# EAGLE library part ESP32-S2-WROOM (library ESP32-S2-WROOM)
WiFi 802.11b/g/n Transceiver Module 2.4GHz PCB Trace Surface Mount Check availability <https://pricing.snapeda.com/parts/ESP32-S2-WROOM/Espressif%20Systems/view-part?ref=eda>
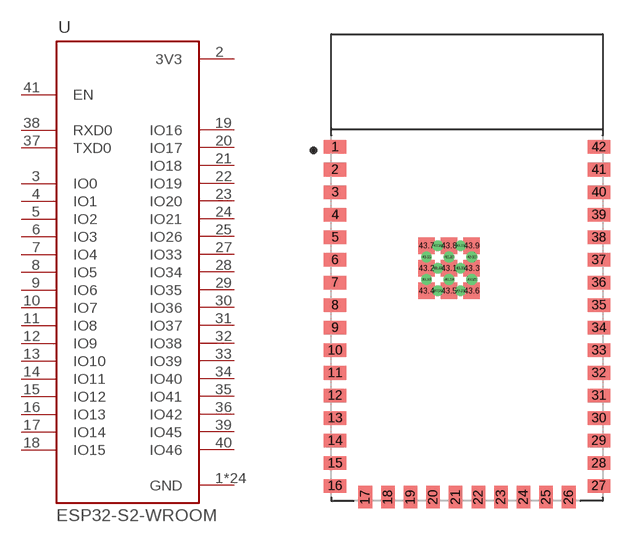
[diagram p0: symbol with the pads of XCVR_ESP32-S2-WROOM; footprint XCVR_ESP32-S2-WROOM]

Designator prefix U

## ESP32-S2-WROOM (Availability: In Stock; Description: WiFi 802.11b/g/n Transceiver Module 2.4GHz Antenna Not Included, I-PEX Surface Mount; MF: Espressif Systems; MP: ESP32-S2-WROOM; Package: NON STANDARD-56 Espressif Systems; Price: None; Purchase-URL: https://pricing.snapeda.com/search/part/ESP32-S2-WROOM/?ref=eda)  [XCVR_ESP32-S2-WROOM]
1  GND  pwr
2  3V3  pwr
3  IO0
4  IO1
5  IO2
6  IO3
7  IO4
8  IO5
9  IO6
10  IO7
11  IO8
12  IO9
13  IO10
14  IO11
15  IO12
16  IO13
17  IO14
18  IO15
19  IO16
20  IO17
21  IO18
22  IO19
23  IO20
24  IO21
25  IO26
26  GND  pwr
27  IO33
28  IO34
29  IO35
30  IO36
31  IO37
32  IO38
33  IO39
34  IO40
35  IO41
36  IO42
37  TXD0
38  RXD0
39  IO45
40  IO46
41  EN  in
42  GND  pwr
43.1  GND  pwr
43.2  GND  pwr
43.3  GND  pwr
43.4  GND  pwr
43.5  GND  pwr
43.6  GND  pwr
43.7  GND  pwr
43.8  GND  pwr
43.9  GND  pwr
43.10  GND  pwr
43.11  GND  pwr
43.12  GND  pwr
43.13  GND  pwr
43.14  GND  pwr
43.15  GND  pwr
43.16  GND  pwr
43.17  GND  pwr
43.18  GND  pwr
43.19  GND  pwr
43.20  GND  pwr
43.21  GND  pwr

## Footprint XCVR_ESP32-S2-WROOM (pad centres in mm)
ESP32-S2-WROOM and ESP32-S2-WROOM-I (Drawn by Dave Williams | G8PUO | DitroniX)
smd 1.5 x 0.9: 1 -8.75,8; 2 -8.75,6.5; 3 -8.75,5; 4 -8.75,3.5; 5 -8.75,2; 6 -8.75,0.5; 7 -8.75,-1; 8 -8.75,-2.5; 9 -8.75,-4; 10 -8.75,-5.5; 11 -8.75,-7; 12 -8.75,-8.5; 13 -8.75,-10; 14 -8.75,-11.5; 15 -8.75,-13; 16 -8.75,-14.5; 27 8.75,-14.5; 28 8.75,-13; 29 8.75,-11.5; 30 8.75,-10; 31 8.75,-8.5; 32 8.75,-7; 33 8.75,-5.5; 34 8.75,-4; 35 8.75,-2.5; 36 8.75,-1; 37 8.75,0.5; 38 8.75,2; 39 8.75,3.5; 40 8.75,5; 41 8.75,6.5; 42 8.75,8
smd 0.9 x 1.5: 17 -6.75,-15.25; 18 -5.25,-15.25; 19 -3.75,-15.25; 20 -2.25,-15.25; 21 -0.75,-15.25; 22 0.75,-15.25; 23 2.25,-15.25; 24 3.75,-15.25; 25 5.25,-15.25; 26 6.75,-15.25
smd 1.1 x 1.1: 43.1 -1.19,-0.05; 43.2 -2.69,-0.05; 43.3 0.31,-0.05; 43.4 -2.69,-1.55; 43.5 -1.19,-1.55; 43.6 0.31,-1.55; 43.7 -2.69,1.45; 43.8 -1.19,1.45; 43.9 0.31,1.45
drill 0.2 pad 0.4: 43.10 -1.19,0.7; 43.11 -2.69,0.7; 43.12 0.31,0.7; 43.13 -2.69,-0.8; 43.14 -1.19,-0.8; 43.15 0.31,-0.8; 43.16 -1.94,1.45; 43.17 -0.44,1.45; 43.18 -1.94,-0.05; 43.19 -0.44,-0.05; 43.20 -1.94,-1.55; 43.21 -0.44,-1.55